# Altium footprint library TS-200.PcbLib: 6 footprints
Each footprint in its own frame and in the unit in brackets; x right, y up, seen from the top. Pads: shape width x height; smd on the part's side, far side on the other; paste and mask are expansions set on the pad; w line width, h text height; cw(c..) or ccw(c..) is an arc to the next point about the centre after c.
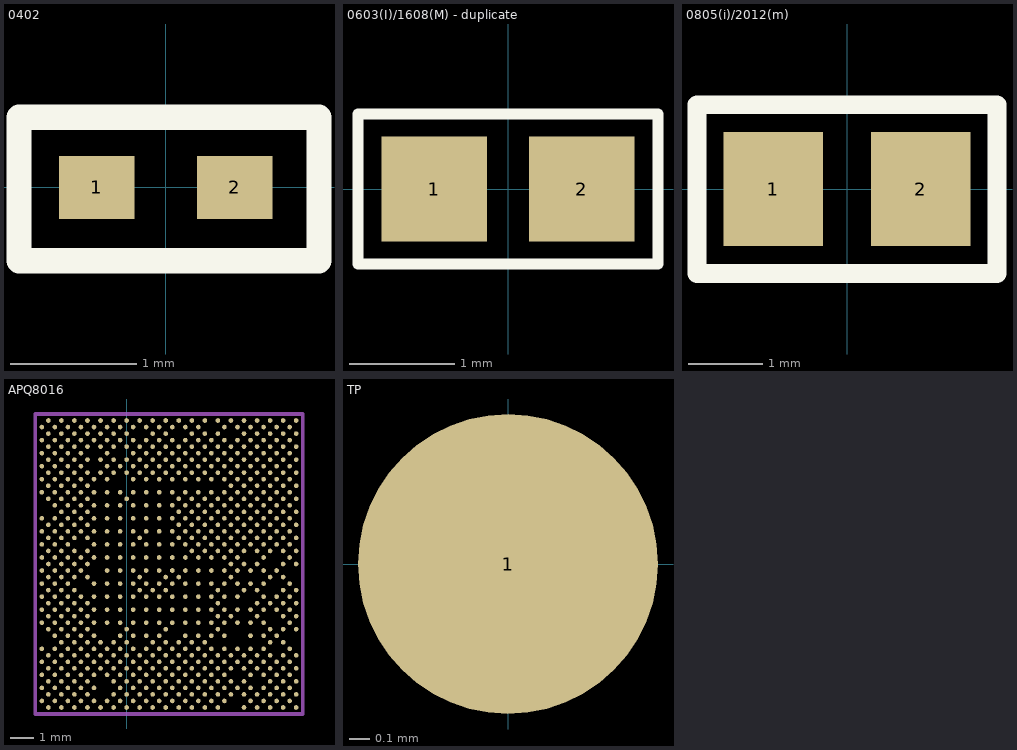
[diagram p0: the footprints below, top view; thin cyan lines are the x and y axes]

## 0402 [mm]
pads (2):
  rect 0.6x0.5 smd: 1(-0.55,0) 2(0.55,0)
Top Overlay:
  lines w0.2: -1.168,-0.584 -1.168,0.559 1.219,0.559 1.219,-0.584 -1.168,-0.584

## 0603(I)/1608(M) - duplicate [mm]
pads (2):
  rect 1x1 smd: 1(-0.7,0) 2(0.7,0)
Top Overlay:
  lines w0.1: -1.422,-0.711 1.422,-0.711 1.422,0.711 -1.422,0.711 -1.422,-0.711
3D body "74411.stp": height 0.78, standoff -0.17, extent -0.875,-0.438 0.875,0.432

## 0805(i)/2012(m) [mm]
pads (2):
  rect 1.35x1.55 smd: 1(-1,0) 2(1,0)
Top Overlay:
  lines w0.254: -2.032,-1.143 -2.032,1.143 2.032,1.143 2.032,-1.143 -2.032,-1.143

## APQ8016 [mil]
pads (760):
  rrect100% 7.87x7.87 smd: A2(-133.7,-3531.93) A4(-111.42,-3531.93) A6(-89.13,-3531.93) A8(-66.85,-3531.93) A10(-44.57,-3531.93) A12(-22.28,-3531.93) A14(0,-3531.93) A16(22.28,-3531.93) A18(44.57,-3531.93) A20(66.85,-3531.93) A22(89.13,-3531.93) A24(111.42,-3531.93) A26(133.7,-3531.93) A28(155.98,-3531.93) A30(178.27,-3531.93) A32(200.55,-3531.93) A34(222.83,-3531.93) A36(245.12,-3531.93) A38(267.4,-3531.93) A40(289.69,-3531.93) AA2(-133.7,-3754.76) AA4(-111.42,-3754.76) AA6(-89.13,-3754.76) AA8(-66.85,-3754.76) AA24(111.42,-3754.76) AA26(133.7,-3754.76) AA28(155.98,-3754.76) AA30(178.27,-3754.76) AA32(200.55,-3754.76) AA34(222.83,-3754.76) AA36(245.12,-3754.76) AA38(267.4,-3754.76) AA40(289.69,-3754.76) AB1(-144.84,-3765.91) AB3(-122.56,-3765.91) AB5(-100.28,-3765.91) AB7(-77.99,-3765.91) AB9(-55.71,-3765.91) AB11(-33.43,-3765.91) AB13(-11.14,-3765.91) AB15(11.14,-3765.91) AB17(33.43,-3765.91) AB19(55.71,-3765.91) AB21(77.99,-3765.91) AB23(100.28,-3765.91) AB25(122.56,-3765.91) AB27(144.84,-3765.91) AB29(167.13,-3765.91) AB31(189.41,-3765.91) AB35(233.98,-3765.91) AB39(278.54,-3765.91) AC2(-133.7,-3777.05) AC4(-111.42,-3777.05) AC6(-89.13,-3777.05) AC8(-66.85,-3777.05) AC30(178.27,-3777.05) AC32(200.55,-3777.05) AC34(222.83,-3777.05) AC38(267.4,-3777.05) AC40(289.69,-3777.05) AD1(-144.84,-3788.19) AD3(-122.56,-3788.19) AD5(-100.28,-3788.19) AD7(-77.99,-3788.19) AD11(-33.43,-3788.19) AD13(-11.14,-3788.19) AD15(11.14,-3788.19) AD17(33.43,-3788.19) AD19(55.71,-3788.19) AD21(77.99,-3788.19) AD23(100.28,-3788.19) AD25(122.56,-3788.19) AD27(144.84,-3788.19) AD29(167.13,-3788.19) AD31(189.41,-3788.19) AD33(211.69,-3788.19) AD35(233.98,-3788.19) AD37(256.26,-3788.19) AE2(-133.7,-3799.33) AE4(-111.42,-3799.33) AE6(-89.13,-3799.33) AE8(-66.85,-3799.33) AE16(22.28,-3799.33) AE20(66.85,-3799.33) AE22(89.13,-3799.33) AE30(178.27,-3799.33) AE36(245.12,-3799.33) AE38(267.4,-3799.33) AF1(-144.84,-3810.47) AF3(-122.56,-3810.47) AF5(-100.28,-3810.47) AF9(-55.71,-3810.47) AF11(-33.43,-3810.47) AF13(-11.14,-3810.47) AF15(11.14,-3810.47) AF17(33.43,-3810.47) AF19(55.71,-3810.47) AF21(77.99,-3810.47) AF23(100.28,-3810.47) AF25(122.56,-3810.47) AF27(144.84,-3810.47) AF29(167.13,-3810.47) AF31(189.41,-3810.47) AF33(211.69,-3810.47) AF35(233.98,-3810.47) AF39(278.54,-3810.47) AG2(-133.7,-3821.61) AG4(-111.42,-3821.61) AG6(-89.13,-3821.61) AG16(22.28,-3821.61) AG18(44.57,-3821.61) AG20(66.85,-3821.61) AG28(155.98,-3821.61) AG32(200.55,-3821.61) AG34(222.83,-3821.61) AG38(267.4,-3821.61) AG40(289.69,-3821.61) AH1(-144.84,-3832.76) AH3(-122.56,-3832.76) AH5(-100.28,-3832.76) AH7(-77.99,-3832.76) AH9(-55.71,-3832.76) AH11(-33.43,-3832.76) AH13(-11.14,-3832.76) AH15(11.14,-3832.76) AH17(33.43,-3832.76) AH19(55.71,-3832.76) AH21(77.99,-3832.76) AH23(100.28,-3832.76) AH25(122.56,-3832.76) AH27(144.84,-3832.76) AH29(167.13,-3832.76) AH31(189.41,-3832.76) AH35(233.98,-3832.76) AH37(256.26,-3832.76) AH39(278.54,-3832.76) AJ2(-133.7,-3843.9) AJ4(-111.42,-3843.9) AJ6(-89.13,-3843.9) AJ8(-66.85,-3843.9) AJ28(155.98,-3843.9) AJ34(222.83,-3843.9) AJ36(245.12,-3843.9) AJ38(267.4,-3843.9) AJ40(289.69,-3843.9) AK1(-144.84,-3855.04) AK3(-122.56,-3855.04) AK5(-100.28,-3855.04) AK7(-77.99,-3855.04) AK9(-55.71,-3855.04) AK11(-33.43,-3855.04) AK13(-11.14,-3855.04) AK15(11.14,-3855.04) AK17(33.43,-3855.04) AK19(55.71,-3855.04) AK21(77.99,-3855.04) AK23(100.28,-3855.04) AK25(122.56,-3855.04) AK27(144.84,-3855.04) AK29(167.13,-3855.04) AK31(189.41,-3855.04) AK33(211.69,-3855.04) AK35(233.98,-3855.04) AK37(256.26,-3855.04) AK39(278.54,-3855.04) AL2(-133.7,-3866.18) AL4(-111.42,-3866.18) AL6(-89.13,-3866.18) AL8(-66.85,-3866.18) AL28(155.98,-3866.18) AL30(178.27,-3866.18) AL34(222.83,-3866.18) AL38(267.4,-3866.18) AL40(289.69,-3866.18) AM1(-144.84,-3877.32) AM3(-122.56,-3877.32) AM5(-100.28,-3877.32) AM7(-77.99,-3877.32) AM9(-55.71,-3877.32) AM11(-33.43,-3877.32) AM13(-11.14,-3877.32) AM15(11.14,-3877.32) AM17(33.43,-3877.32) AM19(55.71,-3877.32) AM21(77.99,-3877.32) AM23(100.28,-3877.32) AM25(122.56,-3877.32) AM27(144.84,-3877.32) AM29(167.13,-3877.32) AM31(189.41,-3877.32) AM33(211.69,-3877.32) AM35(233.98,-3877.32) AM39(278.54,-3877.32) AN2(-133.7,-3888.46) AN4(-111.42,-3888.46) AN6(-89.13,-3888.46) AN8(-66.85,-3888.46) AN14(0,-3888.46) AN20(66.85,-3888.46) AN28(155.98,-3888.46) AN36(245.12,-3888.46) AN38(267.4,-3888.46) AN40(289.69,-3888.46) AP3(-122.56,-3899.61) AP5(-100.28,-3899.61) AP7(-77.99,-3899.61) AP9(-55.71,-3899.61) AP13(-11.14,-3899.61) AP15(11.14,-3899.61) AP17(33.43,-3899.61) AP19(55.71,-3899.61) AP23(100.28,-3899.61) AP25(122.56,-3899.61) AP27(144.84,-3899.61) AP29(167.13,-3899.61) AP33(211.69,-3899.61) AP35(233.98,-3899.61) AP37(256.26,-3899.61) AR4(-111.42,-3910.75) AR6(-89.13,-3910.75) AR8(-66.85,-3910.75) AR10(-44.57,-3910.75) AR12(-22.28,-3910.75) AR14(0,-3910.75) AR18(44.57,-3910.75) AR20(66.85,-3910.75) AR22(89.13,-3910.75) AR24(111.42,-3910.75) AR26(133.7,-3910.75) AR36(245.12,-3910.75) AR38(267.4,-3910.75) AT1(-144.84,-3921.89) AT3(-122.56,-3921.89) AT5(-100.28,-3921.89) AT7(-77.99,-3921.89) AT9(-55.71,-3921.89) AT11(-33.43,-3921.89) AT13(-11.14,-3921.89) AT15(11.14,-3921.89) AT17(33.43,-3921.89) AT19(55.71,-3921.89) AT21(77.99,-3921.89) AT23(100.28,-3921.89) AT25(122.56,-3921.89) AT27(144.84,-3921.89) AT29(167.13,-3921.89) AT31(189.41,-3921.89) AT33(211.69,-3921.89) AT35(233.98,-3921.89) AT39(278.54,-3921.89) AU2(-133.7,-3933.03) AU4(-111.42,-3933.03) AU6(-89.13,-3933.03) AU8(-66.85,-3933.03) AU10(-44.57,-3933.03) AU12(-22.28,-3933.03) AU14(0,-3933.03) AU16(22.28,-3933.03) AU18(44.57,-3933.03) AU20(66.85,-3933.03) AU22(89.13,-3933.03) AU24(111.42,-3933.03) AU26(133.7,-3933.03) AU28(155.98,-3933.03) AU30(178.27,-3933.03) AU32(200.55,-3933.03) AU34(222.83,-3933.03) AU36(245.12,-3933.03) AU38(267.4,-3933.03) AU40(289.69,-3933.03) AV1(-144.84,-3944.17) AV3(-122.56,-3944.17) AV5(-100.28,-3944.17) AV7(-77.99,-3944.17) AV9(-55.71,-3944.17) AV11(-33.43,-3944.17) AV13(-11.14,-3944.17) AV15(11.14,-3944.17) AV17(33.43,-3944.17) AV19(55.71,-3944.17) AV21(77.99,-3944.17) AV23(100.28,-3944.17) AV25(122.56,-3944.17) AV27(144.84,-3944.17) AV29(167.13,-3944.17) AV31(189.41,-3944.17) AV33(211.69,-3944.17) AV35(233.98,-3944.17) AV37(256.26,-3944.17) AV39(278.54,-3944.17) AW2(-133.7,-3955.32) AW4(-111.42,-3955.32) AW6(-89.13,-3955.32) AW8(-66.85,-3955.32) AW10(-44.57,-3955.32) AW12(-22.28,-3955.32) AW14(0,-3955.32) AW16(22.28,-3955.32) AW18(44.57,-3955.32) AW20(66.85,-3955.32) AW22(89.13,-3955.32) AW24(111.42,-3955.32) AW26(133.7,-3955.32) AW28(155.98,-3955.32) AW30(178.27,-3955.32) AW32(200.55,-3955.32) AW34(222.83,-3955.32) AW36(245.12,-3955.32) AW38(267.4,-3955.32) AW40(289.69,-3955.32) AY1(-144.84,-3966.46) AY3(-122.56,-3966.46) AY5(-100.28,-3966.46) AY7(-77.99,-3966.46) AY9(-55.71,-3966.46) AY11(-33.43,-3966.46) AY13(-11.14,-3966.46) AY15(11.14,-3966.46) AY17(33.43,-3966.46) AY19(55.71,-3966.46) AY21(77.99,-3966.46) AY23(100.28,-3966.46) AY25(122.56,-3966.46) AY27(144.84,-3966.46) AY29(167.13,-3966.46) AY33(211.69,-3966.46) AY35(233.98,-3966.46) AY37(256.26,-3966.46) AY39(278.54,-3966.46) B1(-144.84,-3543.07) B3(-122.56,-3543.07) B5(-100.28,-3543.07) B7(-77.99,-3543.07) B9(-55.71,-3543.07) B11(-33.43,-3543.07) B13(-11.14,-3543.07) B15(11.14,-3543.07) B17(33.43,-3543.07) B19(55.71,-3543.07) B21(77.99,-3543.07) B23(100.28,-3543.07) B25(122.56,-3543.07) B29(167.13,-3543.07) B31(189.41,-3543.07) B33(211.69,-3543.07) B35(233.98,-3543.07) B37(256.26,-3543.07) B39(278.54,-3543.07) BA2(-133.7,-3977.6) BA4(-111.42,-3977.6) BA6(-89.13,-3977.6) BA8(-66.85,-3977.6) BA12(-22.28,-3977.6) BA14(0,-3977.6) BA16(22.28,-3977.6) BA18(44.57,-3977.6) BA20(66.85,-3977.6) BA22(89.13,-3977.6) BA24(111.42,-3977.6) BA26(133.7,-3977.6) BA28(155.98,-3977.6) BA30(178.27,-3977.6) BA32(200.55,-3977.6) BA36(245.12,-3977.6) BA38(267.4,-3977.6) BA40(289.69,-3977.6) BB1(-144.84,-3988.74) BB3(-122.56,-3988.74) BB5(-100.28,-3988.74) BB7(-77.99,-3988.74) BB9(-55.71,-3988.74) BB13(-11.14,-3988.74) BB15(11.14,-3988.74) BB17(33.43,-3988.74) BB19(55.71,-3988.74) BB21(77.99,-3988.74) BB23(100.28,-3988.74) BB25(122.56,-3988.74) BB27(144.84,-3988.74) BB29(167.13,-3988.74) BB31(189.41,-3988.74) BB33(211.69,-3988.74) BB35(233.98,-3988.74) BB37(256.26,-3988.74) BB39(278.54,-3988.74) BC2(-133.7,-3999.88) BC4(-111.42,-3999.88) BC6(-89.13,-3999.88) BC8(-66.85,-3999.88) BC12(-22.28,-3999.88) BC14(0,-3999.88) BC16(22.28,-3999.88) BC18(44.57,-3999.88) BC20(66.85,-3999.88) BC22(89.13,-3999.88) BC24(111.42,-3999.88) BC26(133.7,-3999.88) BC28(155.98,-3999.88) BC30(178.27,-3999.88) BC32(200.55,-3999.88) BC34(222.83,-3999.88) BC36(245.12,-3999.88) BC38(267.4,-3999.88) BC40(289.69,-3999.88) BD1(-144.84,-4011.02) BD3(-122.56,-4011.02) BD5(-100.28,-4011.02) BD7(-77.99,-4011.02) BD9(-55.71,-4011.02) BD11(-33.43,-4011.02) BD13(-11.14,-4011.02) BD15(11.14,-4011.02) BD17(33.43,-4011.02) BD19(55.71,-4011.02) BD21(77.99,-4011.02) BD23(100.28,-4011.02) BD25(122.56,-4011.02) BD27(144.84,-4011.02) BD29(167.13,-4011.02) BD33(211.69,-4011.02) BD35(233.98,-4011.02) BD37(256.26,-4011.02) BD39(278.54,-4011.02) BE2(-133.7,-4022.17) BE4(-111.42,-4022.17) BE6(-89.13,-4022.17) BE8(-66.85,-4022.17) BE10(-44.57,-4022.17) BE12(-22.28,-4022.17) BE14(0,-4022.17) BE16(22.28,-4022.17) BE18(44.57,-4022.17) BE20(66.85,-4022.17) BE22(89.13,-4022.17) BE24(111.42,-4022.17) BE26(133.7,-4022.17) BE28(155.98,-4022.17) BE32(200.55,-4022.17) BE34(222.83,-4022.17) BE36(245.12,-4022.17) BE38(267.4,-4022.17) BE40(289.69,-4022.17) C2(-133.7,-3554.21) C4(-111.42,-3554.21) C6(-89.13,-3554.21) C8(-66.85,-3554.21) C10(-44.57,-3554.21) C12(-22.28,-3554.21) C14(0,-3554.21) C18(44.57,-3554.21) C20(66.85,-3554.21) C24(111.42,-3554.21) C26(133.7,-3554.21) C28(155.98,-3554.21) C32(200.55,-3554.21) C34(222.83,-3554.21) C36(245.12,-3554.21) C38(267.4,-3554.21) C40(289.69,-3554.21) D1(-144.84,-3565.35) D3(-122.56,-3565.35) D5(-100.28,-3565.35) D7(-77.99,-3565.35) D9(-55.71,-3565.35) D11(-33.43,-3565.35) D13(-11.14,-3565.35) D15(11.14,-3565.35) D17(33.43,-3565.35) D19(55.71,-3565.35) D21(77.99,-3565.35) D23(100.28,-3565.35) D25(122.56,-3565.35) D27(144.84,-3565.35) D29(167.13,-3565.35) D31(189.41,-3565.35) D33(211.69,-3565.35) D35(233.98,-3565.35) D37(256.26,-3565.35) D39(278.54,-3565.35) E2(-133.7,-3576.5) E4(-111.42,-3576.5) E6(-89.13,-3576.5) E8(-66.85,-3576.5) E10(-44.57,-3576.5) E12(-22.28,-3576.5) E14(0,-3576.5) E16(22.28,-3576.5) E18(44.57,-3576.5) E20(66.85,-3576.5) E22(89.13,-3576.5) E24(111.42,-3576.5) E26(133.7,-3576.5) E28(155.98,-3576.5) E30(178.27,-3576.5) E32(200.55,-3576.5) E34(222.83,-3576.5) E36(245.12,-3576.5) E38(267.4,-3576.5) E40(289.69,-3576.5) F1(-144.84,-3587.64) F3(-122.56,-3587.64) F5(-100.28,-3587.64) F7(-77.99,-3587.64) F11(-33.43,-3587.64) F15(11.14,-3587.64) F17(33.43,-3587.64) F19(55.71,-3587.64) F21(77.99,-3587.64) F23(100.28,-3587.64) F25(122.56,-3587.64) F27(144.84,-3587.64) F29(167.13,-3587.64) F31(189.41,-3587.64) F33(211.69,-3587.64) F35(233.98,-3587.64) F37(256.26,-3587.64) F39(278.54,-3587.64) G2(-133.7,-3598.78) G4(-111.42,-3598.78) G6(-89.13,-3598.78) G8(-66.85,-3598.78) G10(-44.57,-3598.78) G12(-22.28,-3598.78) G14(0,-3598.78) G16(22.28,-3598.78) G18(44.57,-3598.78) G20(66.85,-3598.78) G22(89.13,-3598.78) G24(111.42,-3598.78) G26(133.7,-3598.78) G28(155.98,-3598.78) G30(178.27,-3598.78) G32(200.55,-3598.78) G34(222.83,-3598.78) G36(245.12,-3598.78) G38(267.4,-3598.78) G40(289.69,-3598.78) H1(-144.84,-3609.92) H3(-122.56,-3609.92) H5(-100.28,-3609.92) H7(-77.99,-3609.92) H11(-33.43,-3609.92) H13(-11.14,-3609.92) H15(11.14,-3609.92) H17(33.43,-3609.92) H19(55.71,-3609.92) H21(77.99,-3609.92) H23(100.28,-3609.92) H25(122.56,-3609.92) H27(144.84,-3609.92) H29(167.13,-3609.92) H31(189.41,-3609.92) H33(211.69,-3609.92) H35(233.98,-3609.92) H37(256.26,-3609.92) H39(278.54,-3609.92) J2(-133.7,-3621.06) J4(-111.42,-3621.06) J6(-89.13,-3621.06) J8(-66.85,-3621.06) J10(-44.57,-3621.06) J12(-22.28,-3621.06) J14(0,-3621.06) J16(22.28,-3621.06) J18(44.57,-3621.06) J20(66.85,-3621.06) J22(89.13,-3621.06) J24(111.42,-3621.06) J26(133.7,-3621.06) J28(155.98,-3621.06) J30(178.27,-3621.06) J32(200.55,-3621.06) J34(222.83,-3621.06) J36(245.12,-3621.06) J38(267.4,-3621.06) J40(289.69,-3621.06) K1(-144.84,-3632.2) K3(-122.56,-3632.2) K5(-100.28,-3632.2) K7(-77.99,-3632.2) K9(-55.71,-3632.2) K11(-33.43,-3632.2) K15(11.14,-3632.2) K17(33.43,-3632.2) K19(55.71,-3632.2) K21(77.99,-3632.2) K23(100.28,-3632.2) K25(122.56,-3632.2) K27(144.84,-3632.2) K29(167.13,-3632.2) K31(189.41,-3632.2) K33(211.69,-3632.2) K35(233.98,-3632.2) K37(256.26,-3632.2) K39(278.54,-3632.2) L2(-133.7,-3643.35) L4(-111.42,-3643.35) L6(-89.13,-3643.35) L8(-66.85,-3643.35) L30(178.27,-3643.35) L32(200.55,-3643.35) L34(222.83,-3643.35) L36(245.12,-3643.35) L38(267.4,-3643.35) L40(289.69,-3643.35) M1(-144.84,-3654.49) M3(-122.56,-3654.49) M5(-100.28,-3654.49) M7(-77.99,-3654.49) M9(-55.71,-3654.49) M11(-33.43,-3654.49) M13(-11.14,-3654.49) M15(11.14,-3654.49) M17(33.43,-3654.49) M19(55.71,-3654.49) M21(77.99,-3654.49) M23(100.28,-3654.49) M25(122.56,-3654.49) M27(144.84,-3654.49) M29(167.13,-3654.49) M31(189.41,-3654.49) M33(211.69,-3654.49) M35(233.98,-3654.49) M37(256.26,-3654.49) M39(278.54,-3654.49) N2(-133.7,-3665.63) N4(-111.42,-3665.63) N6(-89.13,-3665.63) N8(-66.85,-3665.63) N14(0,-3665.63) N22(89.13,-3665.63) N24(111.42,-3665.63) N26(133.7,-3665.63) N28(155.98,-3665.63) N30(178.27,-3665.63) N32(200.55,-3665.63) N34(222.83,-3665.63) N36(245.12,-3665.63) N38(267.4,-3665.63) N40(289.69,-3665.63) P3(-122.56,-3676.77) P5(-100.28,-3676.77) P7(-77.99,-3676.77) P9(-55.71,-3676.77) P11(-33.43,-3676.77) P13(-11.14,-3676.77) P15(11.14,-3676.77) P17(33.43,-3676.77) P19(55.71,-3676.77) P21(77.99,-3676.77) P23(100.28,-3676.77) P25(122.56,-3676.77) P27(144.84,-3676.77) P29(167.13,-3676.77) P31(189.41,-3676.77) P33(211.69,-3676.77) P35(233.98,-3676.77) P37(256.26,-3676.77) P39(278.54,-3676.77) R4(-111.42,-3687.91) R6(-89.13,-3687.91) R8(-66.85,-3687.91) R22(89.13,-3687.91) R24(111.42,-3687.91) R26(133.7,-3687.91) R28(155.98,-3687.91) R30(178.27,-3687.91) R32(200.55,-3687.91) R34(222.83,-3687.91) R36(245.12,-3687.91) R38(267.4,-3687.91) R40(289.69,-3687.91) T1(-144.84,-3699.06) T3(-122.56,-3699.06) T5(-100.28,-3699.06) T7(-77.99,-3699.06) T9(-55.71,-3699.06) T11(-33.43,-3699.06) T13(-11.14,-3699.06) T15(11.14,-3699.06) T17(33.43,-3699.06) T19(55.71,-3699.06) T21(77.99,-3699.06) T23(100.28,-3699.06) T25(122.56,-3699.06) T27(144.84,-3699.06) T29(167.13,-3699.06) T31(189.41,-3699.06) T33(211.69,-3699.06) T35(233.98,-3699.06) T37(256.26,-3699.06) T39(278.54,-3699.06) U2(-133.7,-3710.2) U4(-111.42,-3710.2) U6(-89.13,-3710.2) U8(-66.85,-3710.2) U22(89.13,-3710.2) U24(111.42,-3710.2) U26(133.7,-3710.2) U28(155.98,-3710.2) U30(178.27,-3710.2) U32(200.55,-3710.2) U34(222.83,-3710.2) U36(245.12,-3710.2) U38(267.4,-3710.2) U40(289.69,-3710.2) V1(-144.84,-3721.34) V3(-122.56,-3721.34) V5(-100.28,-3721.34) V7(-77.99,-3721.34) V9(-55.71,-3721.34) V11(-33.43,-3721.34) V13(-11.14,-3721.34) V15(11.14,-3721.34) V17(33.43,-3721.34) V19(55.71,-3721.34) V21(77.99,-3721.34) V23(100.28,-3721.34) V25(122.56,-3721.34) V27(144.84,-3721.34) V29(167.13,-3721.34) V31(189.41,-3721.34) V33(211.69,-3721.34) V35(233.98,-3721.34) V37(256.26,-3721.34) V39(278.54,-3721.34) W2(-133.7,-3732.48) W4(-111.42,-3732.48) W6(-89.13,-3732.48) W8(-66.85,-3732.48) W16(22.28,-3732.48) W22(89.13,-3732.48) W24(111.42,-3732.48) W26(133.7,-3732.48) W28(155.98,-3732.48) W30(178.27,-3732.48) W32(200.55,-3732.48) W34(222.83,-3732.48) W36(245.12,-3732.48) W38(267.4,-3732.48) W40(289.69,-3732.48) Y1(-144.84,-3743.62) Y3(-122.56,-3743.62) Y5(-100.28,-3743.62) Y9(-55.71,-3743.62) Y11(-33.43,-3743.62) Y13(-11.14,-3743.62) Y15(11.14,-3743.62) Y17(33.43,-3743.62) Y19(55.71,-3743.62) Y21(77.99,-3743.62) Y23(100.28,-3743.62) Y25(122.56,-3743.62) Y27(144.84,-3743.62) Y29(167.13,-3743.62) Y31(189.41,-3743.62) Y33(211.69,-3743.62) Y35(233.98,-3743.62) Y37(256.26,-3743.62) Y39(278.54,-3743.62)
Mechanical 7:
  lines w6: -155.98,-4033.31 300.83,-4033.31 300.83,-3520.79 -155.98,-3520.79 -155.98,-4033.31

## PCBComponent_1 [mm]

## TP [mm]
pads (1):
  round 1.5 smd paste-1: 1(0,0)